# EAGLE library part SPARKFUN-SWARM-M138 (library GlacTracker)
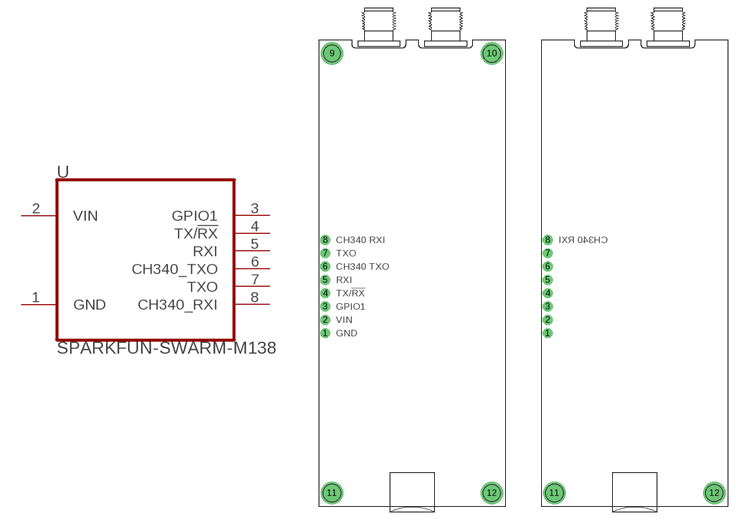
[diagram p3: symbol with the pads of SPARKFUN-SWARM-M138; footprints SPARKFUN-SWARM-M138, SPARKFUN-SWARM-M138-NTH]

Designator prefix U

## SPARKFUN-SWARM-M138  [SPARKFUN-SWARM-M138]
1  GND
2  VIN
3  GPIO1
4  TX/!RX
5  RXI
6  CH340_TXO
7  TXO
8  CH340_RXI

## SPARKFUN-SWARM-M138NOTOPHOLE  [SPARKFUN-SWARM-M138-NTH]
Pads as for SPARKFUN-SWARM-M138

## Footprint SPARKFUN-SWARM-M138 (pad centres in mm)
drill 1.016 pad 1.88: 1 1.27,33.02; 2 1.27,35.56; 3 1.27,38.1; 4 1.27,40.64; 5 1.27,43.18; 6 1.27,45.72; 7 1.27,48.26; 8 1.27,50.8
drill 3.302: 9 2.54,86.36; 10 33.02,86.36; 11 2.54,2.54; 12 33.02,2.54

## Footprint SPARKFUN-SWARM-M138-NTH (pad centres in mm)
drill 1.016 pad 1.88: 1 1.27,33.02; 2 1.27,35.56; 3 1.27,38.1; 4 1.27,40.64; 5 1.27,43.18; 6 1.27,45.72; 7 1.27,48.26; 8 1.27,50.8
drill 3.302: 11 2.54,2.54; 12 33.02,2.54